# Altium schematic symbol library SCH - POWER - SWITCHMODE - TI TPS61288RQQ.SchLib: 1 symbol
Pins are listed as number, name and electrical type; pins without a type are passive.

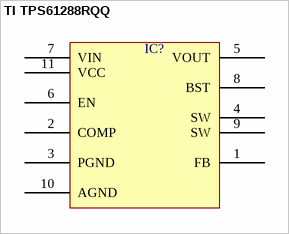
[diagram p0: symbol TI TPS61288RQQ]

## TI TPS61288RQQ
designator IC?  (value not drawn)
pins: 1 FB, 2 COMP, 3 PGND, 4 SW, 5 VOUT, 6 EN, 7 VIN, 8 BST, 9 SW, 10 AGND, 11 VCC